# Altium integrated library AMP Mini CT.IntLib: 6 symbols
Pins are listed as number, name and electrical type; pins without a type are passive.

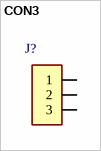
[diagram p0: symbol CON3]

## CON3
designator J?, comment 292230-3  (value not drawn)
ID: 292230-3; PDF: http://www.te.com/commerce/DocumentDelivery/DDEController?Action=srchrtrv&DocNm=292230&DocType=Customer+Drawing&DocLang=English; PRICE: 0.58000; BUY_LINK: http://www.digikey.com/product-detail/en/292230-3/A98708CT-ND/1855502
footprint 3PIN
pins: 1, 2, 3


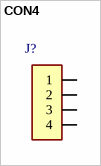
[diagram p1: symbol CON4]

## CON4
designator J?, comment 292230-4  (value not drawn)
ID: 292230-4; PDF: http://www.te.com/commerce/DocumentDelivery/DDEController?Action=srchrtrv&DocNm=292230&DocType=Customer+Drawing&DocLang=English; PRICE: 0.63000; BUY_LINK: http://www.digikey.com/product-detail/en/292230-4/A98709CT-ND/1855503
footprint 4PIN
pins: 1, 2, 3, 4


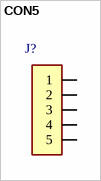
[diagram p2: symbol CON5]

## CON5
designator J?, comment 292230-5  (value not drawn)
ID: 292230-5; PDF: http://www.te.com/commerce/DocumentDelivery/DDEController?Action=srchrtrv&DocNm=292230&DocType=Customer+Drawing&DocLang=English; PRICE: 0.95000; BUY_LINK: http://www.digikey.com/product-detail/en/292230-5/A98710CT-ND/1855504
footprint 5PIN
pins: 1, 2, 3, 4, 5


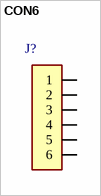
[diagram p3: symbol CON6]

## CON6
designator J?, comment 292230-6  (value not drawn)
ID: 292230-6; PDF: http://www.te.com/commerce/DocumentDelivery/DDEController?Action=srchrtrv&DocNm=292230&DocType=Customer+Drawing&DocLang=English; PRICE: 0.72000; BUY_LINK: http://www.digikey.com/product-detail/en/292230-6/A98711CT-ND/1855505
footprint 6PIN
pins: 1, 2, 3, 4, 5, 6


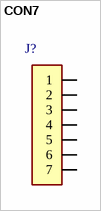
[diagram p4: symbol CON7]

## CON7
designator J?, comment http://www.te.com/commerce/DocumentDelivery/DDEController?Action=srchrtrv&DocNm=292230&DocType=Customer+Drawing&DocLang=English  (value not drawn)
PDF: 292230-7; ID: http://www.te.com/commerce/DocumentDelivery/DDEController?Action=srchrtrv&DocNm=292230&DocType=Customer+Drawing&DocLang=English; PRICE: 0.81000; BUY_LINK: http://www.digikey.com/product-detail/en/292230-7/A98712CT-ND/1855506
footprint 7PIN
pins: 1, 2, 3, 4, 5, 6, 7


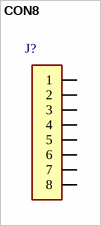
[diagram p5: symbol CON8]

## CON8
designator J?, comment 292230-8  (value not drawn)
ID: 292230-8; PDF: http://www.te.com/commerce/DocumentDelivery/DDEController?Action=srchrtrv&DocNm=292230&DocType=Customer+Drawing&DocLang=English; PRICE: 0.85000; BUY_LINK: http://www.digikey.com/product-detail/en/292230-8/A98713CT-ND/1855507
footprint 8PIN
pins: 1, 2, 3, 4, 5, 6, 7, 8